# EAGLE library part VL53L0X (library HyTechDevices)
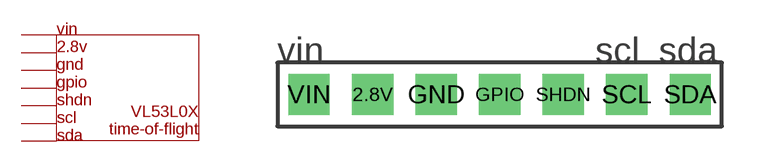
[diagram p104: symbol with the pads of VL53L0X; footprint VL53L0X]

Designator prefix -

## VL53L0X  [VL53L0X]
2.8V  2.8V
GND  GND
GPIO  GPIO
SCL  SCL
SDA  SDA
SHDN  SHDN
VIN  VIN

## Footprint VL53L0X (pad centres in mm)
drill 1.1 square: 2.8V 3.81,1.27; GND 6.35,1.27; GPIO 8.89,1.27; SCL 13.97,1.27; SDA 16.51,1.27; SHDN 11.43,1.27; VIN 1.27,1.27